# EAGLE library part EXB?V* (library power_distribution)
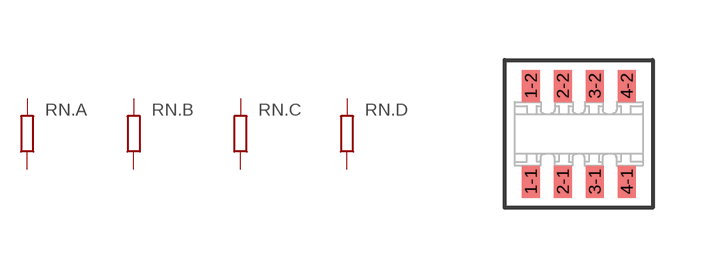
[diagram p11: symbol with the pads of EXB38; footprint EXB38]

Designator prefix RN; gates .A=R-EU .B=R-EU .C=R-EU .D=R-EU

## EXB38V, EXB38V101JV (LINE1: 100R ±5%; LINE2: 50V 0.0625W; MF: Panasonic; MPN: EXB38V101JV; POWER: 0.0625W; RESISTANCE: 100R; TOLERANCE: ±5%; VALUE: 100R ±5% 50V 0.0625W; VOLTAGE: 50V), EXB38V121JV (LINE1: 120R ±5%; LINE2: 50V 0.0625W; MF: Panasonic; MPN: EXB38V121JV; POWER: 0.0625W; RESISTANCE: 120R; TOLERANCE: ±5%; VALUE: 120R ±5% 50V 0.0625W; VOLTAGE: 50V), EXB38V151JV (LINE1: 150R ±5%; LINE2: 50V 0.0625W; MF: Panasonic; MPN: EXB38V151JV; POWER: 0.0625W; RESISTANCE: 150R; TOLERANCE: ±5%; VALUE: 150R ±5% 50V 0.0625W; VOLTAGE: 50V), EXB38V220JV (LINE1: 22R ±5%; LINE2: 50V 0.0625W; MF: Panasonic; MPN: EXB38V220JV; POWER: 0.0625W; RESISTANCE: 22R; TOLERANCE: ±5%; VALUE: 22R ±5% 50V 0.0625W; VOLTAGE: 50V), EXB38V330JV (LINE1: 33R ±5%; LINE2: 50V 0.0625W; MF: Panasonic; MPN: EXB38V330JV; POWER: 0.0625W; RESISTANCE: 33R; TOLERANCE: ±5%; VALUE: 33R ±5% 50V 0.0625W; VOLTAGE: 50V), EXB38V470JV (LINE1: 47R ±5%; LINE2: 50V 0.0625W; MF: Panasonic; MPN: EXB38V470JV; POWER: 0.0625W; RESISTANCE: 47R; TOLERANCE: ±5%; VALUE: 47R ±5% 50V 0.0625W; VOLTAGE: 50V), EXB38V680JV (LINE1: 68R ±5%; LINE2: 50V 0.0625W; MF: Panasonic; MPN: EXB38V680JV; POWER: 0.0625W; RESISTANCE: 68R; TOLERANCE: ±5%; VALUE: 68R ±5% 50V 0.0625W; VOLTAGE: 50V), EXB38VR000V (LINE1: 0R; LINE2: 50V 0.0625W; MF: Panasonic; MPN: EXB38VR000V; POWER: 0.0625W; RESISTANCE: 0R; TOLERANCE: ±5%; VALUE: 0R 50V 0.0625W; VOLTAGE: 50V)  [EXB38]
1-1  .A:1  pas
1-2  .A:2  pas
2-1  .B:1  pas
2-2  .B:2  pas
3-1  .C:1  pas
3-2  .C:2  pas
4-1  .D:1  pas
4-2  .D:2  pas

## Footprint EXB38 (pad centres in mm)
smd 0.45 x 0.8: 1-1 -1.2,-1.2; 1-2 -1.2,1.2; 2-1 -0.4,-1.2; 2-2 -0.4,1.2; 3-1 0.4,-1.2; 3-2 0.4,1.2; 4-1 1.2,-1.2; 4-2 1.2,1.2